# Altium footprint library 2019-05-08_18-30-42.PcbLib: 1 footprints
Each footprint in its own frame and in the unit in brackets; x right, y up, seen from the top. Pads: shape width x height; smd on the part's side, far side on the other; paste and mask are expansions set on the pad; w line width, h text height; cw(c..) or ccw(c..) is an arc to the next point about the centre after c.
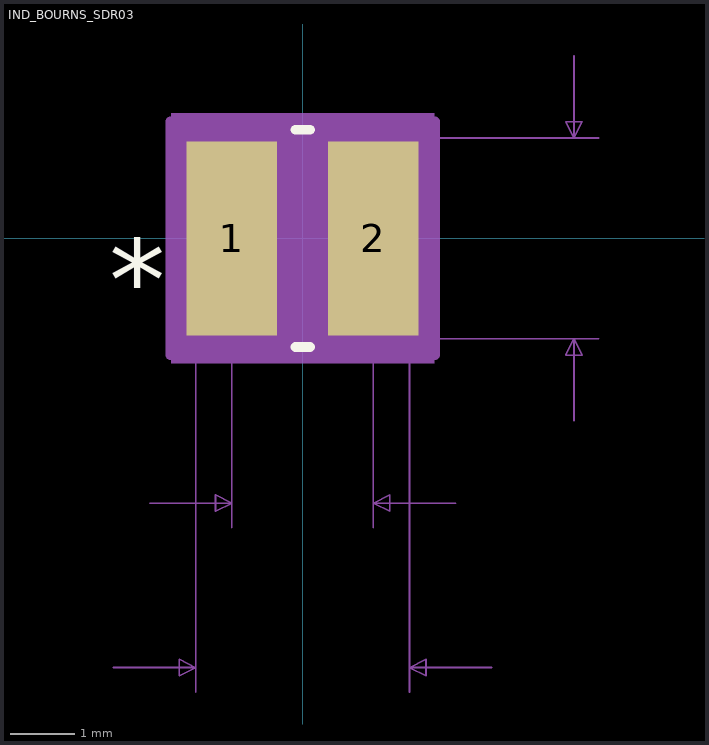
[diagram p0: the footprint, top view; thin cyan lines are the x and y axes]

## IND_BOURNS_SDR03 [mil]
pads (2):
  rect 55x118 smd paste+0 mask+0: 1(-43,0) 2(43,0)
Top Overlay:
  lines w6: -4.43,-66 4.43,-66 ; -4.43,66 4.43,66
  text "*" at -117.5,-50 h50
Mechanical 5:
  region: -80,76 80,76 80,-76 -80,-76
Mechanical 7:
  lines w1: -115,-261 -65,-261 ; -93,-161 -43,-161 ; -65,-276 -65,-61 ; -43,-176 -43,0 ; 43,-176 43,0 ; 65,-276 65,-61 180,-61 ; 65,61 180,61 ; 93,-161 43,-161 ; 115,-261 65,-261 ; 165,-111 165,-61 ; 165,111 165,61 ; -65,-261 -75,-256 -75,-266 -65,-261 ; -43,-161 -53,-156 -53,-166 -43,-161 ; 43,-161 53,-156 53,-166 43,-161 ; 65,-261 75,-256 75,-266 65,-261 ; 165,-61 160,-71 170,-71 165,-61 ; 165,61 160,71 170,71 165,61
  text "Default Padstyle: r140_300" at -325,-411 h50
  text "Alt 1 Padstyle: b152_229h76" at -337.5,-486 h50
  text "Alt 2 Padstyle: b229_152h76" at -337.5,-561 h50
  text "0.086in/2.184mm" at -93.75,-206 h25
  text "0.122in/3.099mm" at 185,48.5 h25
  text "0.13in/3.302mm" at -87.5,-306 h25
Mechanical 13:
  lines w1: -65,-30.5 -65,30.5 -32.5,61 32.5,61 65,30.5 65,-30.5 32.5,-61 -32.5,-61 -65,-30.5
  text "*" at -57.5,-50 h50
Mechanical 15:
  region: 80.5,-71 -80.5,-71 -80.5,71 80.5,71
  lines w6: -80.5,-71 -80.5,71 80.5,71 80.5,-71 -80.5,-71
3D body: height 10, standoff 0, extent 0,0 10,10